# Altium schematic symbol library ortho fixture.SCHLIB: 55 symbols
Pins are listed as number, name and electrical type; pins without a type are passive.

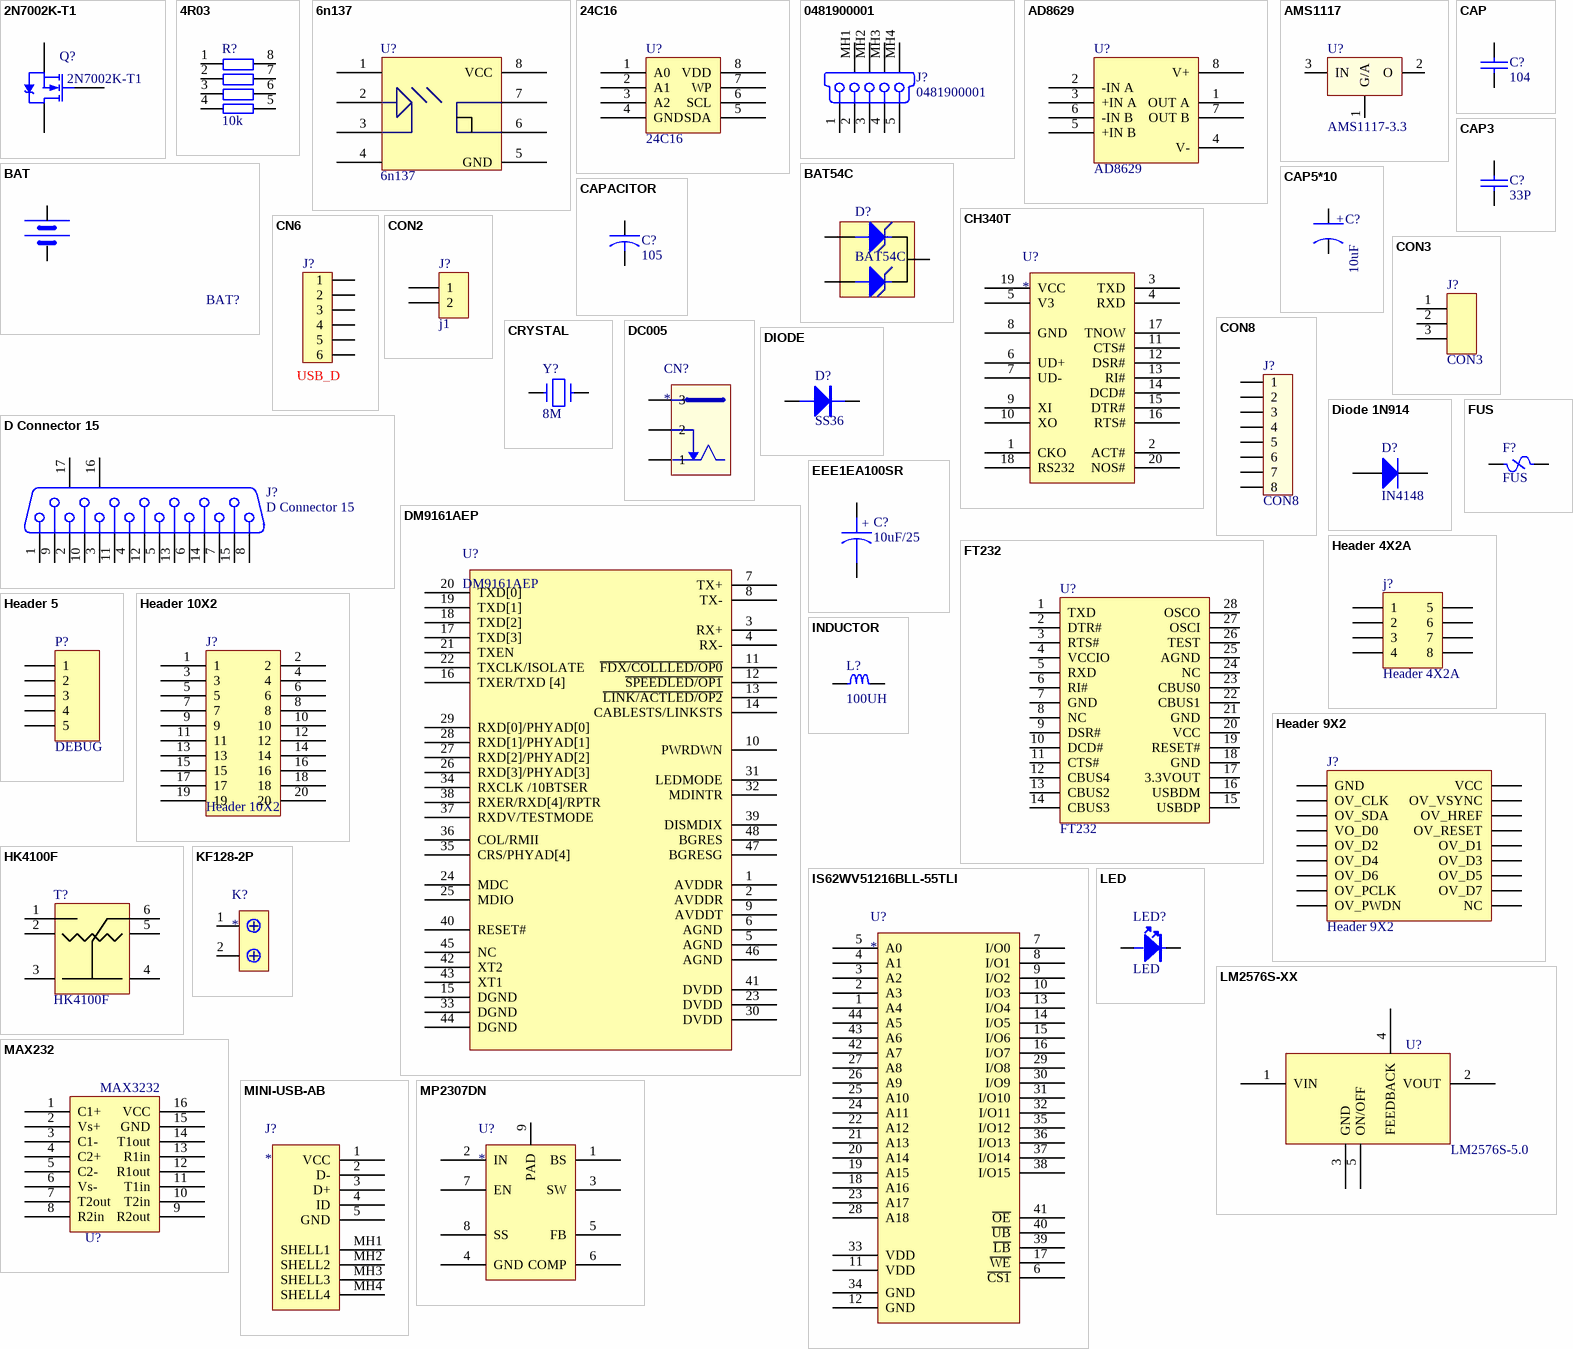
[diagram p0: symbols 2N7002K-T1 to MP2307DN]

## 2N7002K-T1
designator Q?
N-MOS SOT-23
footprint SOT-23 (Footprint not found)
pins: 1 G, 2 S, 3 D

## 4R03
designator R?, comment 10k
footprint 4R03
pins: 1 0, 2 1, 3 2, 4 3, 5 4, 6 5, 7 6, 8 7

## 6n137
designator U?
footprint SOIC8
pins: 1, 2, 3, 4, 5 GND, 6, 7, 8 VCC

## 24C16
designator U?
E2PROM存储芯片
footprint SOP8 (LM3528`393`2614)
pins: 1 A0, 2 A1, 3 A2, 4 GND, 5 SDA, 6 SCL, 7 WP, 8 VDD

## 0481900001
designator J?
USB On-The-Go (OTG) Mini-B Receptacle, Right Angle, SMT, 0.80mm (.031") Pitch, Solder Tabs with Back Cover, Recessed Type; PCB_Layout: Complies with Manufacturer's Recommendation.; Published: 21-Sep-2007; DatasheetVersion: revA, May-2004; PackageVersion: May-2004; PackageReference: 481900001; Publisher: Altium Limited; PackageDescription: USB Mini-B, Sinking Type, SM; 5 Position; Right Angle, Body 11.45 x 11.8 x 3.9 mm (LxWxH); ComponentLink1Description: Manufacturer Link; ComponentLink1URL: http://www.molex.com/; ComponentLink2Description: Datasheet; ComponentLink2URL: http://www.molex.com/cmc_upload/0/000/895/958/SD-48190-001RevA.pdf
footprint 481900001 (Connector; USB Mini-B, Sinking Type, SM; 5 Position; Right Angle)
signal-integrity model USB Mini-B
pins: 1 V BUS (5V) "USB Vcc [Red]", 2 D- "USB Data - [White]", 3 D+ "USB Data + [Green]", 4 NC "Not Connected (or joined to pin 5 via resistor)", 5 GND "Ground [Black]", MH1 Tab "Shell", MH2 Tab "Shell", MH3 Tab "Shell", MH4 Tab "Shell"

## AD8629
designator U?
footprint SOIC8
pins: 1 OUT A, 2 -IN A, 3 +IN A, 4 V-, 5 +IN B, 6 -IN B, 7 OUT B, 8 V+

## AMS1117
designator U?, comment AMS1117-3.3
footprint SOT223
pins: 1 G/A, 2 O, 3 IN

## BAT
designator BAT?, comment BATT  (value not drawn)
footprint BATM
pins: 1 VCC, 2 GND

## BAT54C
designator D?
Diode
footprint SOT-23-3 (Footprint not found)
pins: 1, 2, 3

## CAP
designator C?, comment 104
Capacitor
footprint lc-0805_c
pins: 1, 2

## CAP3
designator C?, comment 33P
Capacitance
footprint lc-0805_c
pins: 1, 2

## CAP5*10
designator C?, comment 10uF
Capacitor
footprint lc-1206_c
pins: 1, 2
text: +

## CAPACITOR
designator C?, comment 105
Capacitor
footprint lc-0805_c
pins: 1, 2
2 alternate drawings of the same symbol

## CH340T
designator U?
footprint SSOP20 (Footprint not found)
pins: 1 CKO, 2 ACT#, 3 TXD, 4 RXD, 5 V3, 6 UD+, 7 UD-, 8 GND, 9 XI, 10 XO, 11 CTS#, 12 DSR#, 13 RI#, 14 DCD#, 15 DTR#, 16 RTS#, 17 TNOW, 18 RS232, 19 VCC, 20 NOS#

## CN6
designator J?, comment USB_D
footprint D-USB6
pins: 1, 2, 3, 4, 5, 6

## CON2
designator J?, comment j1
Connector
footprint CON2_3.81
pins: 1, 2

## CON3
designator J?
3P凤凰端子-直-3.81mm
footprint CN3-2.5 (SIP3)
footprint CN3-4 (Model Description)
footprint CON3-3.9 (Model Description)
footprint CN3-5.08 (Model Description)
footprint CN-POWER7.5W (Model Description)
footprint CN3-2.54
footprint CON3_3.81
pins: 1, 2, 3

## CON8
designator J?
footprint CON8_3.81
pins: 1, 2, 3, 4, 5, 6, 7, 8

## CRYSTAL
designator Y?, comment 8M
无源晶振
footprint CRYSTAL22.1184_3*5 - duplicate (贴片/22.1184)
pins: 1, 2

## D Connector 15
designator J?
Receptacle Assembly, 15 Position, Right Angle; PackageDocument: O; Positions: 15; Published: 15-Jun-2001; LatestRevisionDate: 17-Jul-2002; LatestRevisionNote: Re-released for DXP Platform.; DatasheetDocument: 1-Sep-99; PackageReference: 788757; Publisher: Altium Limited; Orientation: Right Angle; Gender: Receptacle
footprint DSUB1.385-2H15 (Connector; D Subminiature; 15 Position; Right Angle; Pitch 1.385 mm)
signal-integrity model Connector
pins: 1, 2, 3, 4, 5, 6, 7, 8, 9, 10, 11, 12, 13, 14, 15, 16 MH1, 17 MH2

## DC005
designator CN?
3pin, 5mm, DC input connect,
footprint PWR_JACK_UNI_MILLING
pins: + 3, - 2, -- 1

## DIODE
designator D?, comment SS36
Diode
footprint LC-SMB(DO-214AA)_S1
pins: 1, 2

## Diode 1N914
designator D?, comment IN4148
High Conductance Fast Diode; Published: 8-Jun-2000; LatestRevisionDate: 17-Jul-2002; LatestRevisionNote: Re-released for DXP Platform.; DatasheetVersion: 1997; PackageReference: DO-35; Publisher: Altium Limited; PackageDescription: Diode, Axial; Body 3.8 x 1.9 mm (LxDia. max), Lead Dia. 0.53 mm (max); Code_JEDEC: DO-204-AH; ComponentLink1Description: Manufacturer Link; ComponentLink1URL: http://www.fairchildsemi.com/; ComponentLink2Description: Datasheet; ComponentLink2URL: http://www.fairchildsemi.com/ds/1N%2F1N4448.pdf
simulation model 1N914 (DIODE)
signal-integrity model 1N914
footprint lc-sod-123
pins: 1 K, 2 A

## DM9161AEP
designator U?
footprint LQFP-48 (Footprint not found)
pins: 1 AVDDR, 2 AVDDR, 3 RX+, 4 RX-, 5 AGND, 6 AGND, 7 TX+, 8 TX-, 9 AVDDT, 10 PWRDWN, 11 ~{FDX/COLLLED/}~{OP0}, 12 ~{SPEEDLED/OP1}, 13 ~{LINK/ACTLED/OP2}, 14 CABLESTS/LINKSTS, 15 DGND, 16 TXER/TXD [4], 17 TXD[3], 18 TXD[2], 19 TXD[1], 20 TXD[0], 21 TXEN, 22 TXCLK/ISOLATE, 23 DVDD, 24 MDC, 25 MDIO, 26 RXD[3]/PHYAD[3], 27 RXD[2]/PHYAD[2], 28 RXD[1]/PHYAD[1], 29 RXD[0]/PHYAD[0], 30 DVDD, 31 LEDMODE, 32 MDINTR, 33 DGND, 34 RXCLK /10BTSER, 35 CRS/PHYAD[4], 36 COL/RMII, 37 RXDV/TESTMODE, 38 RXER/RXD[4]/RPTR, 39 DISMDIX, 40 RESET#, 41 DVDD, 42 XT2, 43 XT1, 44 DGND, 45 NC, 46 AGND, 47 BGRESG, 48 BGRES

## EEE1EA100SR
designator C?, comment 10uF/25
Aluminum Electrolytic Capacitor SMD  Footprint:SizeCode_C; Manufacturer: Panasonic; Manufacturer Part Number: EEE1EA100SR
footprint SizeCode_C (Footprint not found)
pins: 1, 2
text: +

## FT232
designator U?
footprint TSSOP28
pins: 1 TXD, 2 DTR#, 3 RTS#, 4 VCCIO, 5 RXD, 6 RI#, 7 GND, 8 NC, 9 DSR#, 10 DCD#, 11 CTS#, 12 CBUS4, 13 CBUS2, 14 CBUS3, 15 USBDP, 16 USBDM, 17 3.3VOUT, 18 GND, 19 RESET#, 20 VCC, 21 GND, 22 CBUS1, 23 CBUS0, 24 NC, 25 AGND, 26 TEST, 27 OSCI, 28 OSCO

## FUS
designator F?
footprint FUS-5L (Model Description)
footprint 1206
pins: 1, 2

## Header 4X2A
designator j?
Header, 4-Pin, Dual row; LatestRevisionDate: 17-Jul-2002; LatestRevisionNote: Re-released for DXP Platform.; Publisher: Altium Limited
footprint usb_2
signal-integrity model Connector
pins: 1, 2, 3, 4, 5, 6, 7, 8

## Header 5
designator P?, comment DEBUG
Header, 5-Pin; LatestRevisionDate: 17-Jul-2002; LatestRevisionNote: Re-released for DXP Platform.; Publisher: Altium Limited
footprint HDR1X5 (Connector; Header; 5 Position)
signal-integrity model Connector
pins: 1, 2, 3, 4, 5

## Header 9X2
designator J?
Header, 9-Pin, Dual row; LatestRevisionDate: 17-Jul-2002; LatestRevisionNote: Re-released for DXP Platform.; Publisher: Altium Limited
footprint HDR2X9 (Connector; Header; 9x2 Position)
signal-integrity model Connector
pins: 1 GND, 2 VCC, 3 OV_CLK, 4 OV_VSYNC, 5 OV_SDA, 6 OV_HREF, 7 VO_D0, 8 OV_RESET, 9 OV_D2, 10 OV_D1, 11 OV_D4, 12 OV_D3, 13 OV_D6, 14 OV_D5, 15 OV_PCLK, 16 OV_D7, 17 OV_PWDN, 18 NC

## Header 10X2
designator J?
Header, 10-Pin, Dual row; LatestRevisionDate: 17-Jul-2002; LatestRevisionNote: Re-released for DXP Platform.; Publisher: Altium Limited
footprint HDR2X10H (Connector; Header; 10x2 Position; Right Angle)
pins: 1, 2, 3, 4, 5, 6, 7, 8, 9, 10, 11, 12, 13, 14, 15, 16, 17, 18, 19, 20

## HK4100F
designator T?
footprint HK4100F
pins: 1 NO, 2 COIL1, 3 COM, 4 COM, 5 COIL2, 6 NC

## INDUCTOR
designator L?, comment 100UH
电感
footprint L-SMD12*13
pins: 1, 2

## IS62WV51216BLL-55TLI
designator U?
footprint TSOP-48 (Footprint not found)
pins: 1 A4, 2 A3, 3 A2, 4 A1, 5 A0, 6 ~{CS1}, 7 I/O0, 8 I/O1, 9 I/O2, 10 I/O3, 11 VDD, 12 GND, 13 I/O4, 14 I/O5, 15 I/O6, 16 I/O7, 17 ~{WE}, 18 A16, 19 A15, 20 A14, 21 A13, 22 A12, 23 A17, 24 A11, 25 A10, 26 A9, 27 A8, 28 A18, 29 I/O8, 30 I/O9, 31 I/O10, 32 I/O11, 33 VDD, 34 GND, 35 I/O12, 36 I/O13, 37 I/O14, 38 I/O15, 39 ~{LB}, 40 ~{UB}, 41 ~{OE}, 42 A7, 43 A6, 44 A5

## KF128-2P
designator K?
pitch 5mm,blue, 2 pin,length 10mm
footprint KF128-2P (Footprint not found)
pins: 1, 2

## LED
designator LED?
footprint LED-0603
pins: A 1, C

## LM2576S-XX
designator U?, comment LM2576S-5.0
footprint TO-263-5
pins: 1 VIN, 2 VOUT, 3 GND, 4 FEEDBACK, 5 ON/OFF

## MAX232
designator U?, comment MAX3232
U?; Text Field1: MAX232
footprint DIP-16
footprint SOP16
pins: 1 C1+, 2 Vs+, 3 C1-, 4 C2+, 5 C2-, 6 Vs-, 7 T2out, 8 R2in, 9 R2out, 10 T2in, 11 T1in, 12 R1out, 13 R1in, 14 T1out, 15 GND, 16 VCC
2 alternate drawings of the same symbol

## MINI-USB-AB
designator J?
MINI USB AB 5pin SMT
footprint MINI-B (Connector; USB Mini-B, Sinking Type, SM; 5 Position; Right Angle,481900001)
pins: 1 VCC, 2 D-, 3 D+, 4 ID, 5 GND, MH1 SHELL1 (power), MH2 SHELL2 (power), MH3 SHELL3 (power), MH4 SHELL4 (power)

## MP2307DN
designator U?
DC-DC  4.75-23V INPUT SOIC-8  3A
footprint SOIC-8 (Footprint not found)
pins: 1 BS (power), 2 IN (power), 3 SW (power), 4 GND (power), 5 FB (power), 6 COMP (power), 7 EN (power), 8 SS (power), 9 PAD

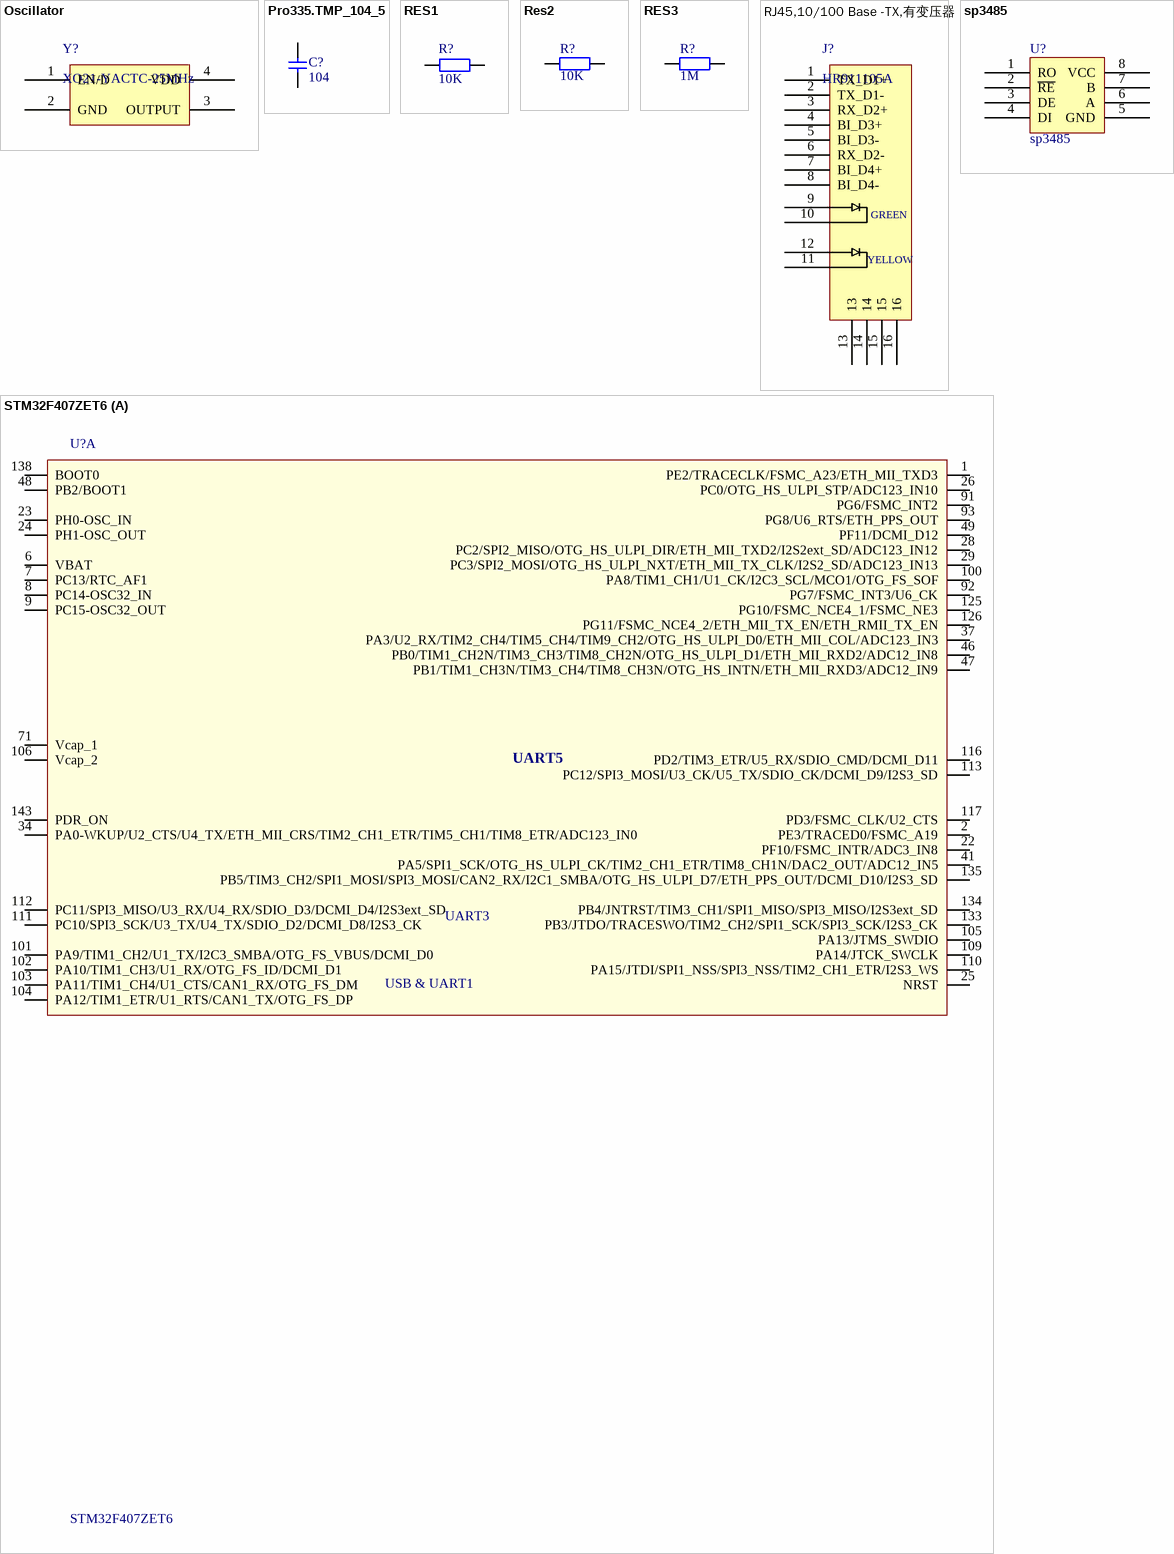
[diagram p1: symbols Oscillator to STM32F407ZET6]

## Oscillator
designator Y?, comment XO21-YACTC-25MHz
3.3V,Crystal Oscillator,25M,,Size 2.05×1.65×0.85 mm
pins: 1 EN/D, 2 GND (power), 3 OUTPUT (power), 4 VDD (power)

## Pro335.TMP_104_5
designator C?, comment 104
footprint lc-0805_c
pins: 1, 2
2 alternate drawings of the same symbol

## RES1
designator R?, comment 10K
footprint lc-0805_r
pins: 1, 2

## Res2
designator R?, comment 10K
Resistor; Published: 8-Jun-2000; LatestRevisionDate: 17-Jul-2002; LatestRevisionNote: Re-released for DXP Platform.; PackageReference: AXIAL-0.4; Publisher: Altium Limited
footprint lc-0805_r
pins: 1, 2

## RES3
designator R?, comment 1M
Resistance
footprint lc-0805_r
pins: 1, 2

## RJ45,10/100 Base -TX,有变压器
designator J?, comment HR911105A
pins: 1 TX_D1+, 2 TX_D1-, 3 RX_D2+, 4 BI_D3+, 5 BI_D3-, 6 RX_D2-, 7 BI_D4+, 8 BI_D4-, 9, 10, 11, 12, 13, 14, 15, 16
text: GREEN; YELLOW

## sp3485
designator U?
footprint SOP8
pins: 1 RO, 2 ~{RE}, 3 DE, 4 DI, 5 GND, 6 A, 7 B, 8 VCC

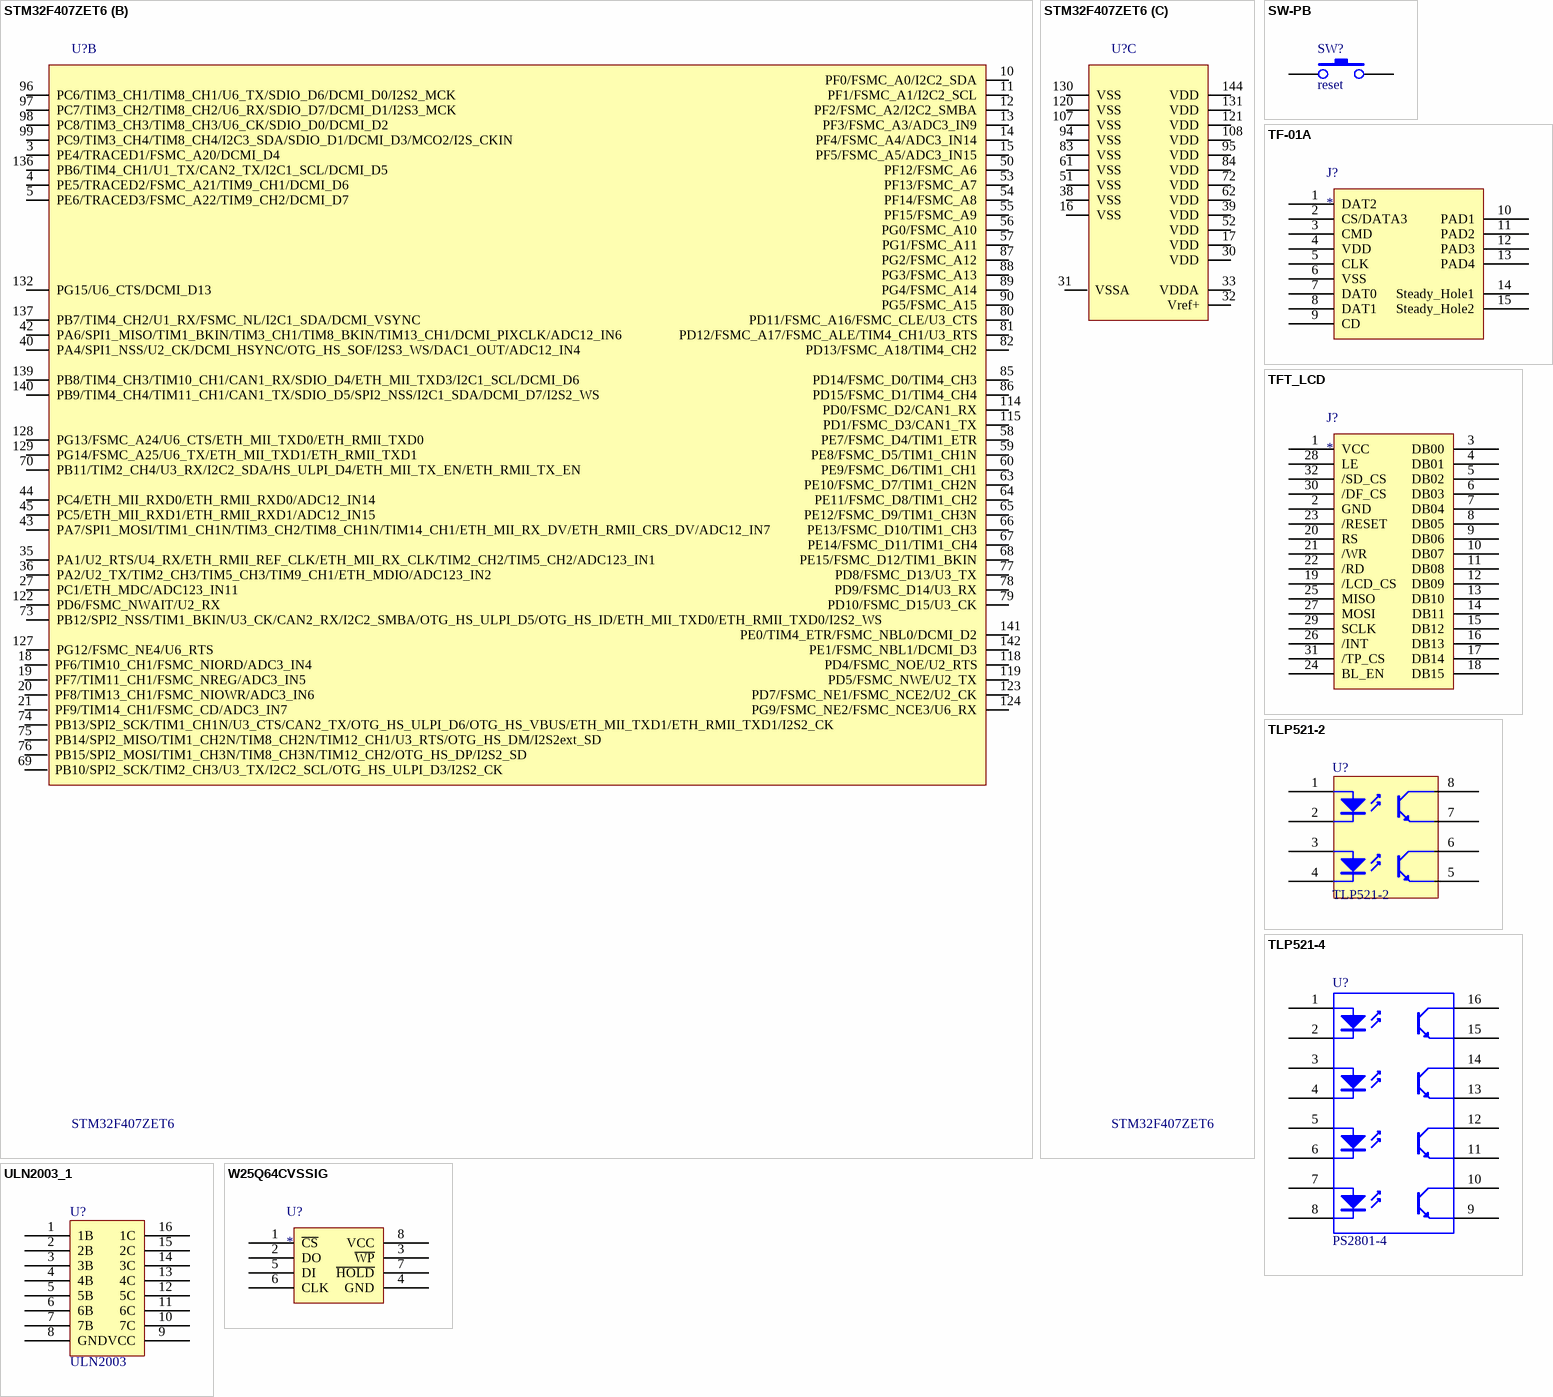
[diagram p2: symbols STM32F407ZET6 to W25Q64CVSSIG]

## STM32F407ZET6
designator U?
footprint LQFP144
part A pins: 1 PE2/TRACECLK/FSMC_A23/ETH_MII_TXD3, 2 PE3/TRACED0/FSMC_A19, 6 VBAT, 7 PC13/RTC_AF1, 8 PC14-OSC32_IN, 9 PC15-OSC32_OUT, 22 PF10/FSMC_INTR/ADC3_IN8, 23 PH0-OSC_IN, 24 PH1-OSC_OUT, 25 NRST, 26 PC0/OTG_HS_ULPI_STP/ADC123_IN10, 28 PC2/SPI2_MISO/OTG_HS_ULPI_DIR/ETH_MII_TXD2/I2S2ext_SD/ADC123_IN12, 29 PC3/SPI2_MOSI/OTG_HS_ULPI_NXT/ETH_MII_TX_CLK/I2S2_SD/ADC123_IN13, 34 PA0-WKUP/U2_CTS/U4_TX/ETH_MII_CRS/TIM2_CH1_ETR/TIM5_CH1/TIM8_ETR/ADC123_IN0, 37 PA3/U2_RX/TIM2_CH4/TIM5_CH4/TIM9_CH2/OTG_HS_ULPI_D0/ETH_MII_COL/ADC123_IN3, 41 PA5/SPI1_SCK/OTG_HS_ULPI_CK/TIM2_CH1_ETR/TIM8_CH1N/DAC2_OUT/ADC12_IN5, 46 PB0/TIM1_CH2N/TIM3_CH3/TIM8_CH2N/OTG_HS_ULPI_D1/ETH_MII_RXD2/ADC12_IN8, 47 PB1/TIM1_CH3N/TIM3_CH4/TIM8_CH3N/OTG_HS_INTN/ETH_MII_RXD3/ADC12_IN9, 48 PB2/BOOT1, 49 PF11/DCMI_D12, 71 Vcap_1, 91 PG6/FSMC_INT2, 92 PG7/FSMC_INT3/U6_CK, 93 PG8/U6_RTS/ETH_PPS_OUT, 100 PA8/TIM1_CH1/U1_CK/I2C3_SCL/MCO1/OTG_FS_SOF, 101 PA9/TIM1_CH2/U1_TX/I2C3_SMBA/OTG_FS_VBUS/DCMI_D0, 102 PA10/TIM1_CH3/U1_RX/OTG_FS_ID/DCMI_D1, 103 PA11/TIM1_CH4/U1_CTS/CAN1_RX/OTG_FS_DM, 104 PA12/TIM1_ETR/U1_RTS/CAN1_TX/OTG_FS_DP, 105 PA13/JTMS_SWDIO, 106 Vcap_2, 109 PA14/JTCK_SWCLK, 110 PA15/JTDI/SPI1_NSS/SPI3_NSS/TIM2_CH1_ETR/I2S3_WS, 111 PC10/SPI3_SCK/U3_TX/U4_TX/SDIO_D2/DCMI_D8/I2S3_CK, 112 PC11/SPI3_MISO/U3_RX/U4_RX/SDIO_D3/DCMI_D4/I2S3ext_SD, 113 PC12/SPI3_MOSI/U3_CK/U5_TX/SDIO_CK/DCMI_D9/I2S3_SD, 116 PD2/TIM3_ETR/U5_RX/SDIO_CMD/DCMI_D11, 117 PD3/FSMC_CLK/U2_CTS, 125 PG10/FSMC_NCE4_1/FSMC_NE3, 126 PG11/FSMC_NCE4_2/ETH_MII_TX_EN/ETH_RMII_TX_EN, 133 PB3/JTDO/TRACESWO/TIM2_CH2/SPI1_SCK/SPI3_SCK/I2S3_CK, 134 PB4/JNTRST/TIM3_CH1/SPI1_MISO/SPI3_MISO/I2S3ext_SD, 135 PB5/TIM3_CH2/SPI1_MOSI/SPI3_MOSI/CAN2_RX/I2C1_SMBA/OTG_HS_ULPI_D7/ETH_PPS_OUT/DCMI_D10/I2S3_SD, 138 BOOT0, 143 PDR_ON
part B pins: 3 PE4/TRACED1/FSMC_A20/DCMI_D4, 4 PE5/TRACED2/FSMC_A21/TIM9_CH1/DCMI_D6, 5 PE6/TRACED3/FSMC_A22/TIM9_CH2/DCMI_D7, 10 PF0/FSMC_A0/I2C2_SDA, 11 PF1/FSMC_A1/I2C2_SCL, 12 PF2/FSMC_A2/I2C2_SMBA, 13 PF3/FSMC_A3/ADC3_IN9, 14 PF4/FSMC_A4/ADC3_IN14, 15 PF5/FSMC_A5/ADC3_IN15, 18 PF6/TIM10_CH1/FSMC_NIORD/ADC3_IN4, 19 PF7/TIM11_CH1/FSMC_NREG/ADC3_IN5, 20 PF8/TIM13_CH1/FSMC_NIOWR/ADC3_IN6, 21 PF9/TIM14_CH1/FSMC_CD/ADC3_IN7, 27 PC1/ETH_MDC/ADC123_IN11, 35 PA1/U2_RTS/U4_RX/ETH_RMII_REF_CLK/ETH_MII_RX_CLK/TIM2_CH2/TIM5_CH2/ADC123_IN1, 36 PA2/U2_TX/TIM2_CH3/TIM5_CH3/TIM9_CH1/ETH_MDIO/ADC123_IN2, 40 PA4/SPI1_NSS/U2_CK/DCMI_HSYNC/OTG_HS_SOF/I2S3_WS/DAC1_OUT/ADC12_IN4, 42 PA6/SPI1_MISO/TIM1_BKIN/TIM3_CH1/TIM8_BKIN/TIM13_CH1/DCMI_PIXCLK/ADC12_IN6, 43 PA7/SPI1_MOSI/TIM1_CH1N/TIM3_CH2/TIM8_CH1N/TIM14_CH1/ETH_MII_RX_DV/ETH_RMII_CRS_DV/ADC12_IN7, 44 PC4/ETH_MII_RXD0/ETH_RMII_RXD0/ADC12_IN14, 45 PC5/ETH_MII_RXD1/ETH_RMII_RXD1/ADC12_IN15, 50 PF12/FSMC_A6, 53 PF13/FSMC_A7, 54 PF14/FSMC_A8, 55 PF15/FSMC_A9, 56 PG0/FSMC_A10, 57 PG1/FSMC_A11, 58 PE7/FSMC_D4/TIM1_ETR, 59 PE8/FSMC_D5/TIM1_CH1N, 60 PE9/FSMC_D6/TIM1_CH1, 63 PE10/FSMC_D7/TIM1_CH2N, 64 PE11/FSMC_D8/TIM1_CH2, 65 PE12/FSMC_D9/TIM1_CH3N, 66 PE13/FSMC_D10/TIM1_CH3, 67 PE14/FSMC_D11/TIM1_CH4, 68 PE15/FSMC_D12/TIM1_BKIN, 69 PB10/SPI2_SCK/TIM2_CH3/U3_TX/I2C2_SCL/OTG_HS_ULPI_D3/I2S2_CK, 70 PB11/TIM2_CH4/U3_RX/I2C2_SDA/HS_ULPI_D4/ETH_MII_TX_EN/ETH_RMII_TX_EN, 73 PB12/SPI2_NSS/TIM1_BKIN/U3_CK/CAN2_RX/I2C2_SMBA/OTG_HS_ULPI_D5/OTG_HS_ID/ETH_MII_TXD0/ETH_RMII_TXD0/I2S2_WS, 74 PB13/SPI2_SCK/TIM1_CH1N/U3_CTS/CAN2_TX/OTG_HS_ULPI_D6/OTG_HS_VBUS/ETH_MII_TXD1/ETH_RMII_TXD1/I2S2_CK, 75 PB14/SPI2_MISO/TIM1_CH2N/TIM8_CH2N/TIM12_CH1/U3_RTS/OTG_HS_DM/I2S2ext_SD, 76 PB15/SPI2_MOSI/TIM1_CH3N/TIM8_CH3N/TIM12_CH2/OTG_HS_DP/I2S2_SD, 77 PD8/FSMC_D13/U3_TX, 78 PD9/FSMC_D14/U3_RX, 79 PD10/FSMC_D15/U3_CK, 80 PD11/FSMC_A16/FSMC_CLE/U3_CTS, 81 PD12/FSMC_A17/FSMC_ALE/TIM4_CH1/U3_RTS, 82 PD13/FSMC_A18/TIM4_CH2, 85 PD14/FSMC_D0/TIM4_CH3, 86 PD15/FSMC_D1/TIM4_CH4, 87 PG2/FSMC_A12, 88 PG3/FSMC_A13, 89 PG4/FSMC_A14, 90 PG5/FSMC_A15, 96 PC6/TIM3_CH1/TIM8_CH1/U6_TX/SDIO_D6/DCMI_D0/I2S2_MCK, 97 PC7/TIM3_CH2/TIM8_CH2/U6_RX/SDIO_D7/DCMI_D1/I2S3_MCK, 98 PC8/TIM3_CH3/TIM8_CH3/U6_CK/SDIO_D0/DCMI_D2, 99 PC9/TIM3_CH4/TIM8_CH4/I2C3_SDA/SDIO_D1/DCMI_D3/MCO2/I2S_CKIN, 114 PD0/FSMC_D2/CAN1_RX, 115 PD1/FSMC_D3/CAN1_TX, 118 PD4/FSMC_NOE/U2_RTS, 119 PD5/FSMC_NWE/U2_TX, 122 PD6/FSMC_NWAIT/U2_RX, 123 PD7/FSMC_NE1/FSMC_NCE2/U2_CK, 124 PG9/FSMC_NE2/FSMC_NCE3/U6_RX, 127 PG12/FSMC_NE4/U6_RTS, 128 PG13/FSMC_A24/U6_CTS/ETH_MII_TXD0/ETH_RMII_TXD0, 129 PG14/FSMC_A25/U6_TX/ETH_MII_TXD1/ETH_RMII_TXD1, 132 PG15/U6_CTS/DCMI_D13, 136 PB6/TIM4_CH1/U1_TX/CAN2_TX/I2C1_SCL/DCMI_D5, 137 PB7/TIM4_CH2/U1_RX/FSMC_NL/I2C1_SDA/DCMI_VSYNC, 139 PB8/TIM4_CH3/TIM10_CH1/CAN1_RX/SDIO_D4/ETH_MII_TXD3/I2C1_SCL/DCMI_D6, 140 PB9/TIM4_CH4/TIM11_CH1/CAN1_TX/SDIO_D5/SPI2_NSS/I2C1_SDA/DCMI_D7/I2S2_WS, 141 PE0/TIM4_ETR/FSMC_NBL0/DCMI_D2, 142 PE1/FSMC_NBL1/DCMI_D3
part C pins: 16 VSS, 17 VDD, 30 VDD, 31 VSSA, 32 Vref+, 33 VDDA, 38 VSS, 39 VDD, 51 VSS, 52 VDD, 61 VSS, 62 VDD, 72 VDD, 83 VSS, 84 VDD, 94 VSS, 95 VDD, 107 VSS, 108 VDD, 120 VSS, 121 VDD, 130 VSS, 131 VDD, 144 VDD
part A text: UART5; UART3; USB & UART1

## SW-PB
designator SW?, comment reset
贴片按键
footprint SW-TAKT_6X3.5_SMD
pins: P$1 1, P$2 2

## TF-01A
designator J?
TF card socket,9pin,minisd socket,mirco sd socket,
footprint TF-01A (Footprint not found)
pins: 1 DAT2 (power), 2 CS/DATA3 (power), 3 CMD (power), 4 VDD (power), 5 CLK (power), 6 VSS (power), 7 DAT0 (power), 8 DAT1 (power), 9 CD (power), 10 PAD1 (power), 11 PAD2 (power), 12 PAD3 (power), 13 PAD4 (power), 14 Steady_Hole1 (power), 15 Steady_Hole2 (power)

## TFT_LCD
designator J?
320x240,32PIN,
pins: 1 VCC, 2 GND, 3 DB00, 4 DB01, 5 DB02, 6 DB03, 7 DB04, 8 DB05, 9 DB06, 10 DB07, 11 DB08, 12 DB09, 13 DB10, 14 DB11, 15 DB12, 16 DB13, 17 DB14, 18 DB15, 19 /LCD_CS, 20 RS, 21 /WR, 22 /RD, 23 /RESET, 24 BL_EN, 25 MISO, 26 /INT, 27 MOSI, 28 LE, 29 SCLK, 30 /DF_CS, 31 /TP_CS, 32 /SD_CS

## TLP521-2
designator U?
footprint DIP-8 (Footprint not found)
pins: 1 A, 2 K, 3 A, 4 K, 5 E, 6 C, 7 E, 8 C

## TLP521-4
designator U?, comment PS2801-4
footprint SOP-16
pins: 1 A, 2 K, 3 A, 4 K, 5 A, 6 K, 7 A, 8 K, 9 E, 10 C, 11 E, 12 C, 13 E, 14 C, 15 E, 16 C
2 alternate drawings of the same symbol

## ULN2003_1
designator U?, comment ULN2003
footprint SO16
pins: 1 1B, 2 2B, 3 3B, 4 4B, 5 5B, 6 6B, 7 7B, 8 GND, 9 VCC, 10 7C, 11 6C, 12 5C, 13 4C, 14 3C, 15 2C, 16 1C

## W25Q64CVSSIG
designator U?
64M Bits,SOIC-8,FLASH
footprint SOIC-8 (Footprint not found)
pins: 1 ~{CS} (power), 2 DO (power), 3 ~{WP} (power), 4 GND (power), 5 DI (power), 6 CLK (power), 7 ~{HOLD} (power), 8 VCC (power)